# Altium schematic symbol library Lib_Example.schlib: 3 symbols
Pins are listed as number, name and electrical type; pins without a type are passive.

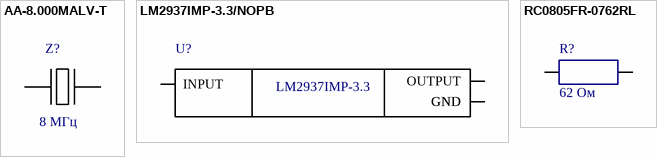
[diagram p0: symbols AA-8.000MALV-T to RC0805FR-0762RL]

## AA-8.000MALV-T
designator Z?, comment 8 МГц
PartNum: AA-8.000MALV-T; Manufacturer: TXC Corporation; Tolerance: 30 ppm; Value: 8MHz; Package: SMD 5mm x 3.2mm; Voltage: *; Номинал: 8 МГц
footprint AA-8.000MALV-T
pins: 1, 2

## LM2937IMP-3.3/NOPB
designator U?  (value not drawn)
PartNum: LM2937IMP-3.3/NOPB; Manufacturer: Texas Instruments; Voltage: 26 В; Tolerance: 5%; Value: 500mA; Номинал: 500 мА; Package: SOT-223
footprint SOT223 (Footprint not found)
pins: 1 INPUT, 2 GND, 3 OUTPUT, 4 GND
text: LM2937IMP-3.3

## RC0805FR-0762RL
designator R?, comment 62 Ом
PartNum: RC0805FR-0762RL; Manufacturer: Bourns; Value: 62Ohm; Tolerance: 1%; Package: 0603; Voltage: Bourns; Номинал: 62 Ом
footprint SMD_RES_0603 (Chip Resistor, 2-Leads, Body 1,60x0,85mm, IPC Medium Density)
pins: 1, 2